# EAGLE library part LOGIC_74HC138 (library !GPLIB_ACTIVE)
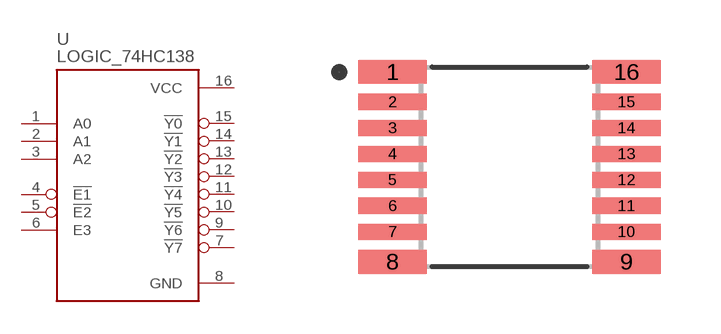
[diagram p66: symbol with the pads of TSSOP_16P; footprint TSSOP_16P]

Designator prefix U

## LOGIC_74HC138_74HC138T  [TSSOP_16P]
1  A0  in
2  A1  in
3  A2  in
4  !E1  in
5  !E2  in
6  E3  in
7  !Y7  out
8  GND  pwr
9  !Y6  out
10  !Y5  out
11  !Y4  out
12  !Y3  out
13  !Y2  out
14  !Y1  out
15  !Y0  out
16  VCC  pwr

## Footprint TSSOP_16P (pad centres in mm)
smd 1.7 x 0.6: 1 -2.925,2.375; 8 -2.925,-2.375; 9 2.925,-2.375; 16 2.925,2.375
smd 1.7 x 0.4: 2 -2.925,1.625; 3 -2.925,0.975; 4 -2.925,0.325; 5 -2.925,-0.325; 6 -2.925,-0.975; 7 -2.925,-1.625; 10 2.925,-1.625; 11 2.925,-0.975; 12 2.925,-0.325; 13 2.925,0.325; 14 2.925,0.975; 15 2.925,1.625